# Altium footprint library VirtualWire.PcbLib: 15 footprints
Each footprint in its own frame and in the unit in brackets; x right, y up, seen from the top. Pads: shape width x height; smd on the part's side, far side on the other; paste and mask are expansions set on the pad; w line width, h text height; cw(c..) or ccw(c..) is an arc to the next point about the centre after c.
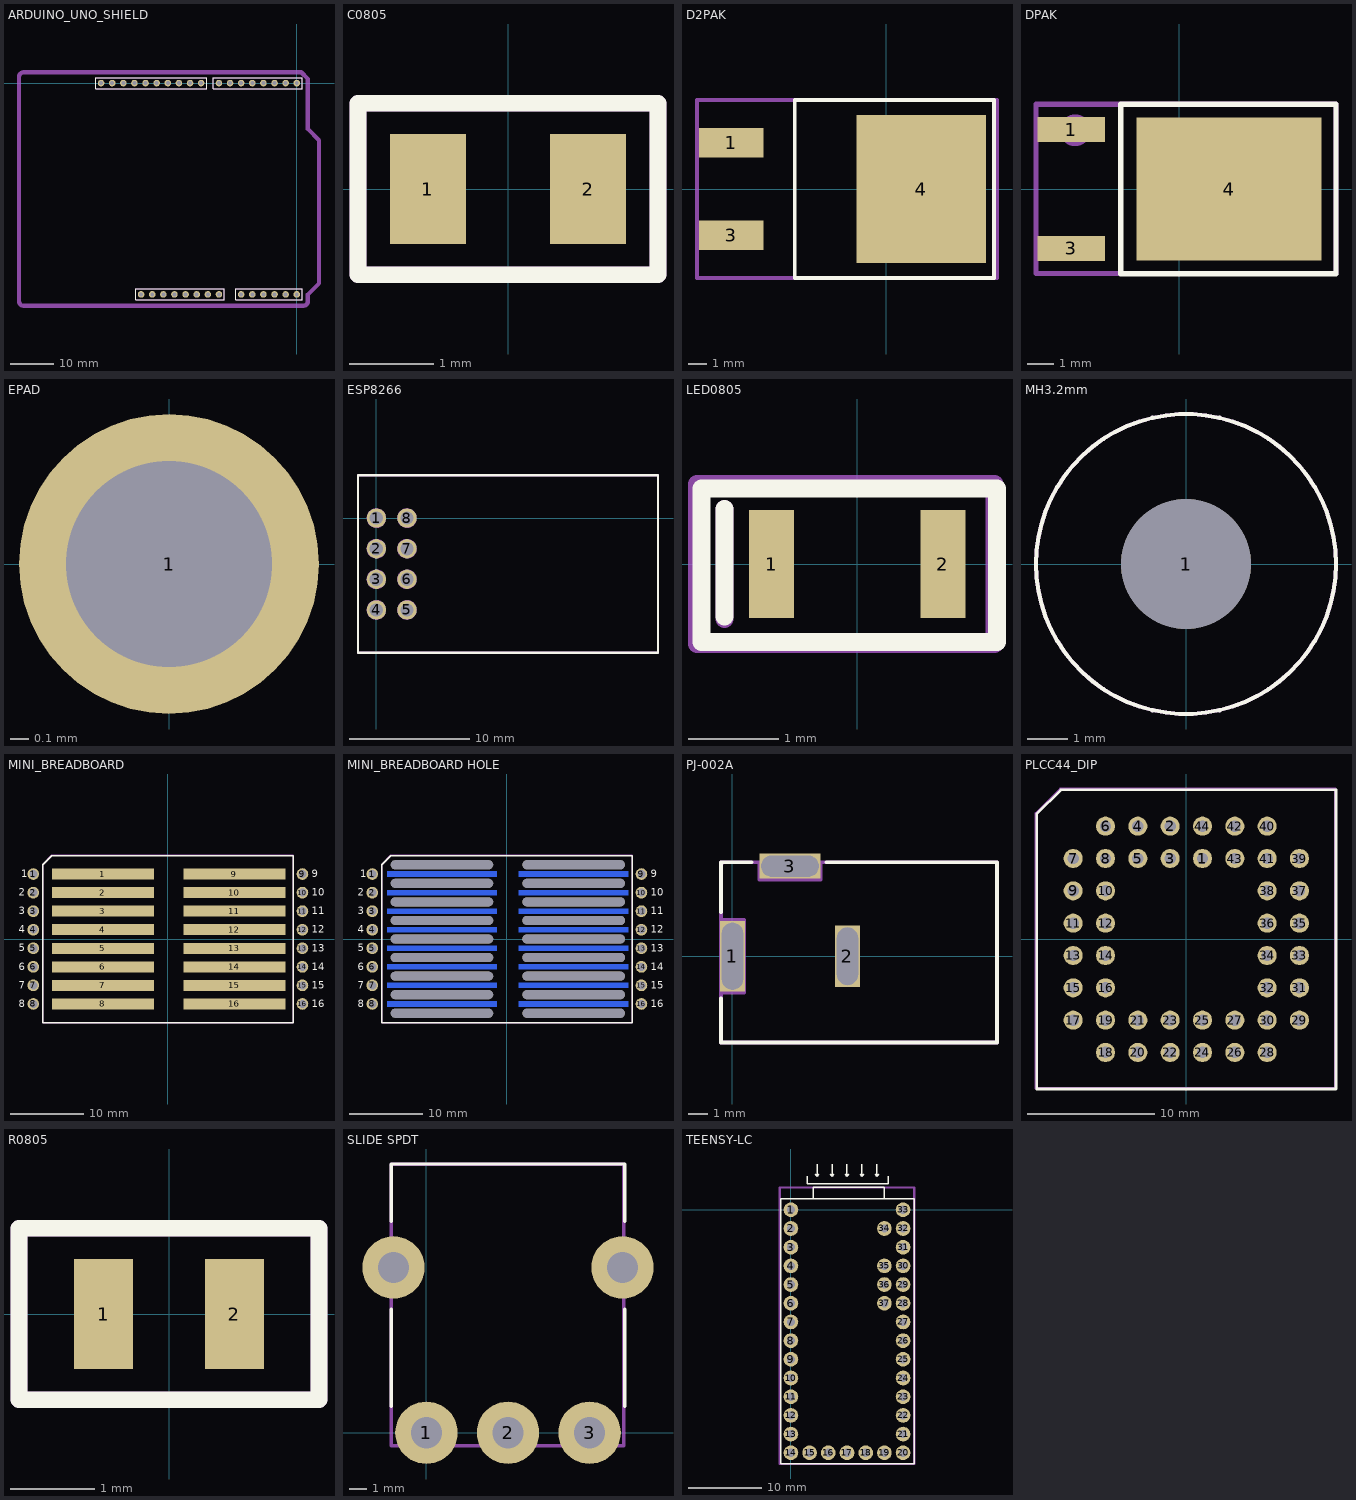
[diagram p0: the footprints below, top view; thin cyan lines are the x and y axes]

## ARDUINO_UNO_SHIELD [mm]
pads (32):
  round 1.5 hole 0.9: 1(0,0) 2(-2.54,0) 3(-5.08,0) 4(-7.62,0) 5(-10.16,0) 6(-12.7,0) 7(-15.24,0) 8(-17.78,0) 9(-21.844,0) 10(-24.384,0) 11(-26.924,0) 12(-29.464,0) 13(-32.004,0) 14(-34.544,0) 15(-37.084,0) 16(-39.624,0) 17(0,-48.26) 18(-2.54,-48.26) 19(-5.08,-48.26) 20(-7.62,-48.26) 21(-10.16,-48.26) 22(-12.7,-48.26) 23(-17.78,-48.26) 24(-20.32,-48.26) 25(-22.86,-48.26) 26(-25.4,-48.26) 27(-27.94,-48.26) 28(-30.48,-48.26) 29(-33.02,-48.26) ""(-44.704,0) ""(-42.164,0) ""(-35.56,-48.26)
Top Overlay:
  lines w0.2: -45.974,-1.27 -45.974,1.27 -20.574,1.27 -20.574,-1.27 -22.479,-1.27 -45.974,-1.27 ; -36.83,-49.53 -36.83,-46.99 -16.51,-46.99 -16.51,-49.53 -36.83,-49.53 ; -19.05,-1.27 1.27,-1.27 1.27,1.27 -19.05,1.27 -19.05,-1.27 ; -13.97,-49.53 1.27,-49.53 1.27,-46.99 -13.97,-46.99 -13.97,-49.53
Mechanical_Assembly:
  circle w1: c0,0 r0.105
  lines w0.2: -45.974,-1.27 -20.574,-1.27 -20.574,1.27 -45.974,1.27 -45.974,-1.27 ; -36.83,-49.53 -16.51,-49.53 -16.51,-46.99 -36.83,-46.99 -36.83,-49.53 ; -19.05,-1.27 1.27,-1.27 1.27,1.27 -19.05,1.27 -19.05,-1.27 ; -13.97,-49.53 1.27,-49.53 1.27,-46.99 -13.97,-46.99 -13.97,-49.53
  lines w1: -63.456,-49.842 -63.456,1.448 -63.413,1.723 -63.329,1.955 -63.159,2.167 -62.948,2.315 -62.715,2.421 -62.461,2.463 1.017,2.463 2.54,0.94 2.54,-10.486 5.079,-13.025 5.079,-45.759 2.54,-48.298 2.54,-49.842 2.498,-50.096 2.413,-50.329 2.244,-50.54 2.032,-50.71 1.799,-50.794 1.546,-50.837 -62.461,-50.837 -62.715,-50.794 -62.948,-50.71 -63.159,-50.54 -63.329,-50.329 -63.413,-50.096 -63.456,-49.842

## C0805 [mm]
pads (2):
  rect 0.9x1.3 smd: 1(-0.95,0) 2(0.95,0)
Top Overlay:
  lines w0.2: -1.778,-1.016 -1.778,1.016 1.778,1.016 1.778,-1.016 -1.778,-1.016
Mechanical_Assembly:
  lines w0.2: -1.778,-1.016 1.778,-1.016 1.778,1.016 -1.778,1.016 -1.778,-1.016
  text "'.Designator'" at -0.889,-0.381 h0.7
3D body "C805.STEP": height 0.74, standoff -0.02, extent -1,-0.655 1,0.655

## D2PAK [mm]
pads (3):
  rect 3.5x1.6 smd: 1(-8.4,2.5) 3(-8.4,-2.5)
  rect 7x8 smd: 4(1.9,0)
Top Overlay:
  lines w0.2: -4.953,-4.826 -4.953,4.826 5.842,4.826 5.842,-4.826 -2.326,-4.826 -4.953,-4.826
Mechanical_Assembly:
  circle w1: c-8.25,2.5 r0.105
  lines w0.2: -10.25,-4.826 -10.25,4.826 6,4.826 6,-4.826 -10.25,-4.826
  text "'.Designator'" at -4.826,-0.762 h1.52
3D body "d2pak.step": height 4.78, standoff -0.24, extent -9.916,-5.08 5.347,5.08

## DPAK [mm] "D-PAK, 3-Pads, Body 6.10x6.56mm (max), IPC Medium Density"
height 2.38
pads (3):
  rect 2.6x0.95 smd: 1(-4.15,2.28) 3(-4.15,-2.28)
  rect 7.1x5.5 smd: 4(1.9,0)
Top Overlay:
  lines w0.2: -2.25,-3.25 6,-3.25 6,3.25 -2.25,3.25 -2.25,-3.25
Mechanical_Assembly:
  circle w1: c-4,2.25 r0.105
  lines w0.2: -5.5,-3.242 -5.5,3.251 6,3.251 6,-3.242 -5.5,-3.242
  text "'.Designator'" at -1.778,-0.356 h1.52
3D body "D-PAK.step": height 2.31, standoff 0.01, extent -3.937,-3.242 5.563,3.251

## EPAD [mm]
pads (1):
  round 1.6 hole 1.1: 1(0,0)

## ESP8266 [mm]
pads (8):
  round 1.6 hole 1.1: 1(0,0) 2(0,-2.54) 3(0,-5.08) 4(0,-7.62) 5(2.54,-7.62) 6(2.54,-5.08) 7(2.54,-2.54) 8(2.54,0)
Top Overlay:
  lines w0.2: -1.524,-11.176 -1.524,3.556 23.368,3.556 23.368,-11.176 -1.524,-11.176
Mechanical_Assembly:
  circle w0.2: c2.54,-7.62 r0.718
  circle w0.2: c2.54,-5.08 r0.718
  circle w0.2: c2.54,-2.54 r0.718
  circle w0.2: c2.54,0 r0.718
  circle w0.2: c0,-7.62 r0.718
  circle w0.2: c0,-5.08 r0.718
  circle w0.2: c0,-2.54 r0.718
  circle w0.2: c0,0 r0.718
  lines w0.2: -1.524,-11.176 23.368,-11.176 23.368,3.556 -1.524,3.556 -1.524,-11.176
  text "'.Designator'" at 7.62,-5.842 h2
3D body "Wi07C.step": height 5.88, standoff -5.8, extent -1.473,-11.085 23.327,3.415

## LED0805 [mm]
pads (2):
  rect 0.5x1.2 smd: 1(-0.95,0) 2(0.95,0)
Top Overlay:
  lines w0.2: -1.473,-0.584 -1.473,0.61 ; -1.727,-0.864 -1.727,0.838 1.549,0.838 1.549,-0.864 -1.727,-0.864
Mechanical_Assembly:
  lines w0.2: -1.473,-0.61 -1.473,0.61 ; -1.778,-0.889 1.524,-0.889 1.524,0.889 -1.778,0.889 -1.778,-0.889
  text "'.Designator'" at -1.092,-0.406 h0.7
3D body "led_0805.step": height 1.1, standoff 0, extent -1.01,-0.625 1.01,0.625

## MH3.2mm [mm] "MHNP 3.2mm"
pads (1):
  round 3.2 hole 3.2 unplated: 1(0,0)
Top Overlay:
  circle w0.1: c0,0 r3.7
Mechanical_Assembly:
  circle w0.1: c0,0 r3.7

## MINI_BREADBOARD [mm]
pads (32):
  round 1.6 hole 1.1: 1(-18.415,8.89) 2(-18.415,6.35) 3(-18.415,3.81) 4(-18.415,1.27) 5(-18.415,-1.27) 6(-18.415,-3.81) 7(-18.415,-6.35) 8(-18.415,-8.89) 9(18.415,8.89) 10(18.415,6.35) 11(18.415,3.81) 12(18.415,1.27) 13(18.415,-1.27) 14(18.415,-3.81) 15(18.415,-6.35) 16(18.415,-8.89)
  rect 14x1.5 smd: 1(-8.89,8.89) 2(-8.89,6.35) 3(-8.89,3.81) 4(-8.89,1.27) 5(-8.89,-1.27) 6(-8.89,-3.81) 7(-8.89,-6.35) 8(-8.89,-8.89) 9(9.11,8.89) 10(9.11,6.35) 11(9.11,3.81) 12(9.11,1.27) 13(9.11,-1.27) 14(9.11,-3.81) 15(9.11,-6.35) 16(9.11,-8.89)
Top Overlay:
  lines w0.2: -17.12,10.16 -17.145,10.16 ; -17.145,10.16 -15.9,11.405 -5.69,11.405 5.69,11.405 17.145,11.405 17.145,-11.43 -17.145,-11.43 -17.145,10.16
  text "1" at -20.043,8.458 h1
  text "2" at -20.376,5.916 h1
  text "3" at -20.376,3.375 h1
  text "4" at -20.376,0.833 h1
  text "5" at -20.376,-1.709 h1
  text "6" at -20.376,-4.251 h1
  text "8" at -20.376,-9.335 h1
  text "7" at -20.376,-6.793 h1
  text "14" at 19.685,-4.253 h1
  text "15" at 19.685,-6.795 h1
  text "16" at 19.685,-9.336 h1
  text "13" at 19.685,-1.711 h1
  text "12" at 19.685,0.831 h1
  text "11" at 19.685,3.373 h1
  text "10" at 19.685,5.915 h1
  text "9" at 19.685,8.456 h1
Mechanical_Assembly:
  lines w0.2: -17.145,-11.43 -8.572,-11.43 8.572,-11.43 17.145,-11.43 17.145,11.43 -15.875,11.43 -17.145,10.16 -17.145,-11.43
  text "'.Designator'" at 0.635,-8.89 h1.52
3D body: height 22.75, standoff -20.37, extent 1.524,0.508 1.524,0.508
3D body "breadboard_ver3.stp": height 8.51, standoff 0.01, extent -17.25,-11.354 17.25,11.476

## MINI_BREADBOARD HOLE [mm]
pads (50):
  round 1.6 hole 1.1: 1(-18.415,8.89) 2(-18.415,6.35) 3(-18.415,3.81) 4(-18.415,1.27) 5(-18.415,-1.27) 6(-18.415,-3.81) 7(-18.415,-6.35) 8(-18.415,-8.89) 9(18.415,8.89) 10(18.415,6.35) 11(18.415,3.81) 12(18.415,1.27) 13(18.415,-1.27) 14(18.415,-3.81) 15(18.415,-6.35) 16(18.415,-8.89)
  rect 15x0.7 smd far side mask+0.05: 1(-8.89,8.89) 2(-8.89,6.35) 3(-8.89,3.81) 4(-8.89,1.27) 5(-8.89,-1.27) 6(-8.89,-3.81) 7(-8.89,-6.35) 8(-8.89,-8.89) 9(9.144,8.89) 10(9.144,6.35) 11(9.144,3.81) 12(9.144,1.27) 13(9.144,-1.27) 14(9.144,-3.81) 15(9.144,-6.35) 16(9.144,-8.89)
  rrect100% 14x1.2 hole 1.2 slot 14 at 0 deg unplated: ""(-8.89,-10.16) ""(-8.89,-7.62) ""(-8.89,-5.08) ""(-8.89,-2.54) ""(-8.89,0) ""(-8.89,2.54) ""(-8.89,5.08) ""(-8.89,7.62) ""(-8.89,10.16) ""(9.144,-10.16) ""(9.144,-7.62) ""(9.144,-5.08) ""(9.144,-2.54) ""(9.144,0) ""(9.144,2.54) ""(9.144,5.08) ""(9.144,7.62) ""(9.144,10.16)
Top Overlay:
  lines w0.2: -17.12,10.16 -17.145,10.16 ; -17.145,10.16 -15.9,11.405 -5.69,11.405 5.69,11.405 17.145,11.405 17.145,-11.43 -17.145,-11.43 -17.145,10.16
  text "1" at -20.043,8.458 h1
  text "2" at -20.376,5.916 h1
  text "3" at -20.376,3.375 h1
  text "4" at -20.376,0.833 h1
  text "5" at -20.376,-1.709 h1
  text "6" at -20.376,-4.251 h1
  text "8" at -20.376,-9.335 h1
  text "7" at -20.376,-6.793 h1
  text "14" at 19.685,-4.253 h1
  text "15" at 19.685,-6.795 h1
  text "16" at 19.685,-9.336 h1
  text "13" at 19.685,-1.711 h1
  text "12" at 19.685,0.831 h1
  text "11" at 19.685,3.373 h1
  text "10" at 19.685,5.915 h1
  text "9" at 19.685,8.456 h1
Mechanical_Assembly:
  lines w0.2: -17.145,-11.43 -8.572,-11.43 8.572,-11.43 17.145,-11.43 17.145,11.43 -15.875,11.43 -17.145,10.16 -17.145,-11.43
  text "'.Designator'" at 0.635,-8.89 h1.52
3D body: height 22.75, standoff -20.37, extent 1.524,0.508 1.524,0.508
3D body "breadboard_ver3.stp": height 8.51, standoff 0.01, extent -17.228,-11.415 17.272,11.415

## PJ-002A [mm] "CONN PWR JACK 2X5.5MM SOLDER"
pads (3):
  rect 1.3x3.7 hole 1.1 slot 3.5 at 90 deg: 1(0,0)
  rect 1.3x3.2 hole 1.1 slot 3 at 90 deg: 2(6,0)
  rect 3.2x1.3 hole 1.1 slot 3 at 0 deg: 3(3,4.7)
Top Overlay:
  lines w0.2: -0.6,-2.2 -0.6,-4.5 13.8,-4.5 13.8,4.9 4.9,4.9 ; -0.6,2.3 -0.6,4.9 1,4.9
Mechanical_Assembly:
  lines w0.2: -0.6,4.9 13.8,4.9 13.8,-4.5 -0.6,-4.5 -0.6,4.8 -0.5,4.9 ; -0.5,-1.9 0.6,-1.9 0.6,1.9 -0.5,1.9 ; 1.4,4.9 1.4,4 4.6,4 4.6,4.9
  text "'.Designator'" at 2.667,-0.889 h1
3D body "PJ-002AH.STEP": height 11.05, standoff -3.45, extent -0.6,-4.5 13.8,4.9

## PLCC44_DIP [mm]
pads (44):
  round 1.5 hole 0.9: 1(1.27,6.35) 2(-1.27,8.89) 3(-1.27,6.35) 4(-3.81,8.89) 5(-3.81,6.35) 6(-6.35,8.89) 7(-8.89,6.35) 8(-6.35,6.35) 9(-8.89,3.81) 10(-6.35,3.81) 11(-8.89,1.27) 12(-6.35,1.27) 13(-8.89,-1.27) 14(-6.35,-1.27) 15(-8.89,-3.81) 16(-6.35,-3.81) 17(-8.89,-6.35) 18(-6.35,-8.89) 19(-6.35,-6.35) 20(-3.81,-8.89) 21(-3.81,-6.35) 22(-1.27,-8.89) 23(-1.27,-6.35) 24(1.27,-8.89) 25(1.27,-6.35) 26(3.81,-8.89) 27(3.81,-6.35) 28(6.35,-8.89) 29(8.89,-6.35) 30(6.35,-6.35) 31(8.89,-3.81) 32(6.35,-3.81) 33(8.89,-1.27) 34(6.35,-1.27) 35(8.89,1.27) 36(6.35,1.27) 37(8.89,3.81) 38(6.35,3.81) 39(8.89,6.35) 40(6.35,8.89) 41(6.35,6.35) 42(3.81,8.89) 43(3.81,6.35) 44(1.27,8.89)
Top Overlay:
  lines w0.2: -11.76,-11.76 -11.76,9.83 -9.855,11.735 11.76,11.735 11.76,-11.76 -11.76,-11.76
Mechanical_Assembly:
  lines w0.2: -11.811,-11.684 11.684,-11.684 11.684,11.811 -9.906,11.811 -11.811,9.906 -11.811,-11.684
  text "'.Designator'" at -3.81,-0.889 h1
3D body "PLCC44.step": height 9, standoff 4.4, extent -8.65,-8.65 8.65,8.65
3D body "plc44dip.stp": height 8.56, standoff -3.19, extent -11.59,-11.59 11.59,11.59
3D body: height 9, standoff 4, extent -3.75,-3.75 3.75,3.75

## R0805 [mm]
pads (2):
  rect 0.7x1.3 smd mask+0.02: 1(-0.775,0) 2(0.775,0)
Top Overlay:
  lines w0.2: -1.778,-1.016 -1.778,1.016 1.778,1.016 1.778,-1.016 -1.778,-1.016
Mechanical_Assembly:
  lines w0.2: -1.778,-1.016 1.778,-1.016 1.778,1.016 -1.778,1.016 -1.778,-1.016
  text "'.Designator'" at -0.864,-0.33 h0.7
3D body "RES_2013-0805.step": height 0.77, standoff 0.01, extent -1.15,-0.675 1.15,0.675

## SLIDE SPDT [mm] "500SSP1S1M6QEA"
pads (5):
  round 3.6 hole 1.8: 1(0,0) 2(4.7,0) 3(9.4,0) ""(-1.9,9.53) ""(11.3,9.53)
Top Overlay:
  lines w0.2: -2.032,1.524 -2.032,7.112 ; -2.032,12.192 -2.032,15.494 11.43,15.494 11.43,12.192 ; 11.43,1.524 11.43,7.112
Mechanical_Assembly:
  lines w0.2: -2.032,15.358 -2.032,-0.754 11.379,-0.754 11.379,15.486 -2.032,15.486
  text "'.Designator'" at 5.462,3.495 h2
3D body "1101M2S3ABE2.step": height 6.6, standoff -3.17, extent -2.032,-0.754 11.379,15.486

## TEENSY-LC [mm]
pads (37):
  round 2 hole 1.1: 1(0,0) 2(0,-2.54) 3(0,-5.08) 4(0,-7.62) 5(0,-10.16) 6(0,-12.7) 7(0,-15.24) 8(0,-17.78) 9(0,-20.32) 10(0,-22.86) 11(0,-25.4) 12(0,-27.94) 13(0,-30.48) 14(0,-33.02) 15(2.54,-33.02) 16(5.08,-33.02) 17(7.62,-33.02) 18(10.16,-33.02) 19(12.7,-33.02) 20(15.24,-33.02) 21(15.24,-30.48) 22(15.24,-27.94) 23(15.24,-25.4) 24(15.24,-22.86) 25(15.24,-20.32) 26(15.24,-17.78) 27(15.24,-15.24) 28(15.24,-12.7) 29(15.24,-10.16) 30(15.24,-7.62) 31(15.24,-5.08) 32(15.24,-2.54) 33(15.24,0) 34(12.7,-2.54) 35(12.7,-7.62) 36(12.7,-10.16) 37(12.7,-12.7)
Top Overlay:
  lines w0.2: 2.208,4.572 2.208,3.556 13.208,3.556 13.208,4.572 ; 3.048,1.651 3.048,3.048 12.7,3.048 12.7,1.651 ; 3.302,4.826 3.556,4.572 ; 3.556,4.826 3.556,4.572 ; 3.556,6.223 3.556,4.572 ; 3.81,4.826 3.556,4.572 ; 5.334,4.826 5.588,4.572 ; 5.588,4.826 5.588,4.572 ; 5.588,6.223 5.588,4.572 ; 5.842,4.826 5.588,4.572 ; 7.366,4.826 7.62,4.572 ; 7.62,4.826 7.62,4.572 ; 7.62,6.223 7.62,4.572 ; 7.874,4.826 7.62,4.572 ; 9.398,4.826 9.652,4.572 ; 9.652,4.826 9.652,4.572 ; 9.652,6.223 9.652,4.572 ; 9.906,4.826 9.652,4.572 ; 11.43,4.826 11.684,4.572 ; 11.684,4.826 11.684,4.572 ; 11.684,6.223 11.684,4.572 ; 11.938,4.826 11.684,4.572 ; -1.397,-34.544 16.764,-34.544 16.764,1.524 -1.397,1.524 -1.397,-34.544
Mechanical_Assembly:
  circle w0.2: c0,-0.025 r0.5
  lines w0.3: -1.524,-34.544 -1.524,3.048 16.764,3.048 16.764,-34.544 -1.524,-34.544
  text "'.Designator'" at 5.08,-19.304 h2
3D body "Teensy_lc.stp": height 4.49, standoff 0, extent -1.27,-34.365 16.658,2.615